# EAGLE library part ATSAMC21J18A-AUT (library graftel-internal-ic)
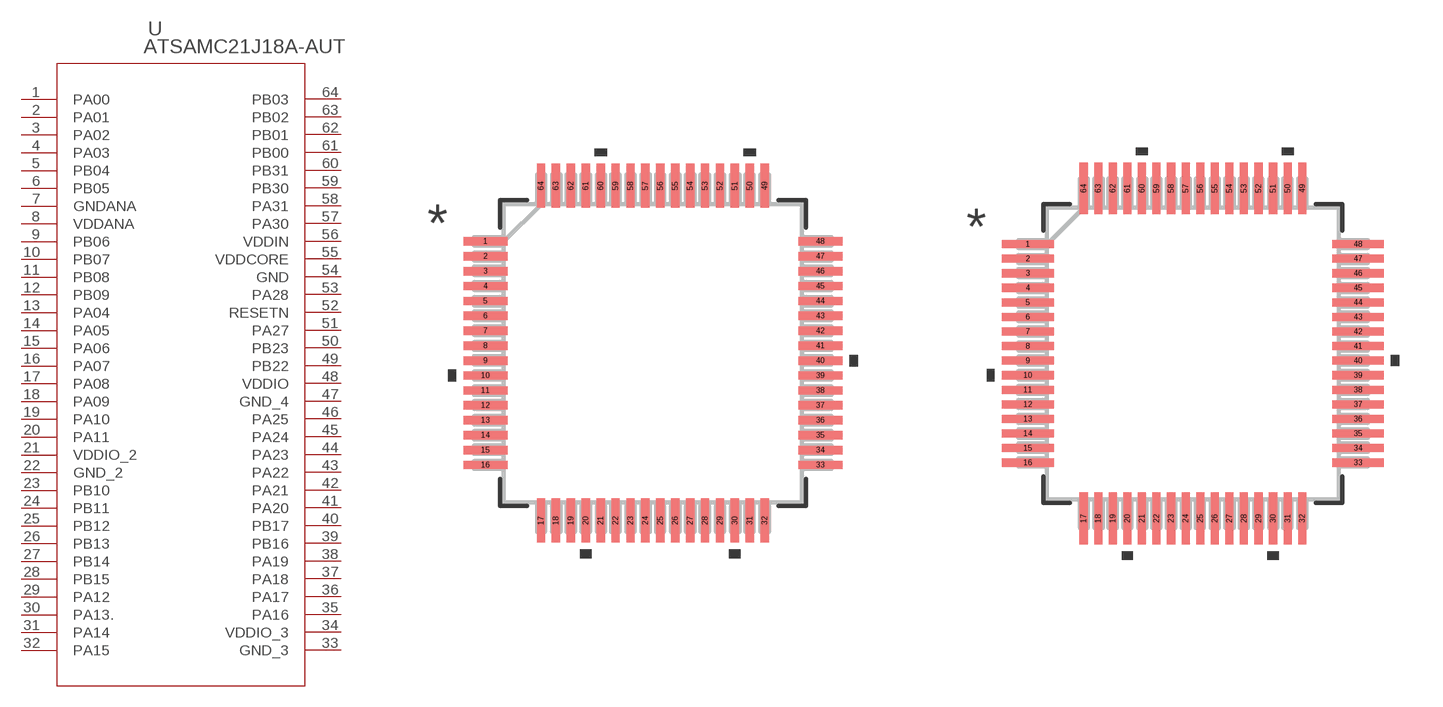
[diagram p81: symbol with the pads of TQFP64_10X10MC_MCH; footprints TQFP64_10X10MC_MCH, TQFP64_10X10MC_MCH-M]

Designator prefix U

## ATSAMC21J18A-AUT (BUILT_BY: EMA_Molly; COPYRIGHT: Copyright (C) 2018 Accelerated Designs. All rights reserved; MANUFACTURER_PART_NUMBER: ATSAMC21J18A-AUT; SOURCELIBRARY: Microchip_2019-08-23_25; VENDOR: Microchip)  [TQFP64_10X10MC_MCH]
1  PA00
2  PA01
3  PA02
4  PA03
5  PB04
6  PB05
7  GNDANA  pas
8  VDDANA  pwr
9  PB06
10  PB07
11  PB08
12  PB09
13  PA04
14  PA05
15  PA06
16  PA07
17  PA08
18  PA09
19  PA10
20  PA11
21  VDDIO_2  pwr
22  GND_2  pas
23  PB10
24  PB11
25  PB12
26  PB13
27  PB14
28  PB15
29  PA12
30  PA13.
31  PA14
32  PA15
33  GND_3  pas
34  VDDIO_3  pwr
35  PA16
36  PA17
37  PA18
38  PA19
39  PB16
40  PB17
41  PA20
42  PA21
43  PA22
44  PA23
45  PA24
46  PA25
47  GND_4  pas
48  VDDIO  pwr
49  PB22
50  PB23
51  PA27
52  RESETN  pas
53  PA28
54  GND  pas
55  VDDCORE  pwr
56  VDDIN  pwr
57  PA30
58  PA31
59  PB30
60  PB31
61  PB00
62  PB01
63  PB02
64  PB03

## ATSAMC21J18A-AUTTQFP64_10X10MC_MCH-M (BUILT_BY: EMA_Molly; COPYRIGHT: Copyright (C) 2018 Accelerated Designs. All rights reserved; MANUFACTURER_PART_NUMBER: ATSAMC21J18A-AUT; SOURCELIBRARY: Microchip_2019-08-23_25; VENDOR: Microchip)  [TQFP64_10X10MC_MCH-M]
Pads as for TQFP64_10X10MC_MCH

## ATSAMC21J18A-AUTTQFP64_10X10MC_MCH-L (BUILT_BY: EMA_Molly; COPYRIGHT: Copyright (C) 2018 Accelerated Designs. All rights reserved; MANUFACTURER_PART_NUMBER: ATSAMC21J18A-AUT; SOURCELIBRARY: Microchip_2019-08-23_25; VENDOR: Microchip)  [TQFP64_10X10MC_MCH-L]
Pads as for TQFP64_10X10MC_MCH

## Footprint TQFP64_10X10MC_MCH (pad centres in mm)
smd 1.473 x 0.279: 1 -5.613,3.75; 2 -5.613,3.25; 3 -5.613,2.75; 4 -5.613,2.25; 5 -5.613,1.75; 6 -5.613,1.25; 7 -5.613,0.75; 8 -5.613,0.25; 9 -5.613,-0.25; 10 -5.613,-0.75; 11 -5.613,-1.25; 12 -5.613,-1.75; 13 -5.613,-2.25; 14 -5.613,-2.75; 15 -5.613,-3.25; 16 -5.613,-3.75; 33 5.613,-3.75; 34 5.613,-3.25; 35 5.613,-2.75; 36 5.613,-2.25; 37 5.613,-1.75; 38 5.613,-1.25; 39 5.613,-0.75; 40 5.613,-0.25; 41 5.613,0.25; 42 5.613,0.75; 43 5.613,1.25; 44 5.613,1.75; 45 5.613,2.25; 46 5.613,2.75; 47 5.613,3.25; 48 5.613,3.75
smd 0.279 x 1.473: 17 -3.75,-5.613; 18 -3.25,-5.613; 19 -2.75,-5.613; 20 -2.25,-5.613; 21 -1.75,-5.613; 22 -1.25,-5.613; 23 -0.75,-5.613; 24 -0.25,-5.613; 25 0.25,-5.613; 26 0.75,-5.613; 27 1.25,-5.613; 28 1.75,-5.613; 29 2.25,-5.613; 30 2.75,-5.613; 31 3.25,-5.613; 32 3.75,-5.613; 49 3.75,5.613; 50 3.25,5.613; 51 2.75,5.613; 52 2.25,5.613; 53 1.75,5.613; 54 1.25,5.613; 55 0.75,5.613; 56 0.25,5.613; 57 -0.25,5.613; 58 -0.75,5.613; 59 -1.25,5.613; 60 -1.75,5.613; 61 -2.25,5.613; 62 -2.75,5.613; 63 -3.25,5.613; 64 -3.75,5.613

## Footprint TQFP64_10X10MC_MCH-M (pad centres in mm)
smd 1.778 x 0.279: 1 -5.664,3.75; 2 -5.664,3.25; 3 -5.664,2.75; 4 -5.664,2.25; 5 -5.664,1.75; 6 -5.664,1.25; 7 -5.664,0.75; 8 -5.664,0.25; 9 -5.664,-0.25; 10 -5.664,-0.75; 11 -5.664,-1.25; 12 -5.664,-1.75; 13 -5.664,-2.25; 14 -5.664,-2.75; 15 -5.664,-3.25; 16 -5.664,-3.75; 33 5.664,-3.75; 34 5.664,-3.25; 35 5.664,-2.75; 36 5.664,-2.25; 37 5.664,-1.75; 38 5.664,-1.25; 39 5.664,-0.75; 40 5.664,-0.25; 41 5.664,0.25; 42 5.664,0.75; 43 5.664,1.25; 44 5.664,1.75; 45 5.664,2.25; 46 5.664,2.75; 47 5.664,3.25; 48 5.664,3.75
smd 0.279 x 1.778: 17 -3.75,-5.664; 18 -3.25,-5.664; 19 -2.75,-5.664; 20 -2.25,-5.664; 21 -1.75,-5.664; 22 -1.25,-5.664; 23 -0.75,-5.664; 24 -0.25,-5.664; 25 0.25,-5.664; 26 0.75,-5.664; 27 1.25,-5.664; 28 1.75,-5.664; 29 2.25,-5.664; 30 2.75,-5.664; 31 3.25,-5.664; 32 3.75,-5.664; 49 3.75,5.664; 50 3.25,5.664; 51 2.75,5.664; 52 2.25,5.664; 53 1.75,5.664; 54 1.25,5.664; 55 0.75,5.664; 56 0.25,5.664; 57 -0.25,5.664; 58 -0.75,5.664; 59 -1.25,5.664; 60 -1.75,5.664; 61 -2.25,5.664; 62 -2.75,5.664; 63 -3.25,5.664; 64 -3.75,5.664

## Footprint TQFP64_10X10MC_MCH-L (pad centres in mm)
smd 1.168 x 0.229: 1 -5.563,3.75; 2 -5.563,3.25; 3 -5.563,2.75; 4 -5.563,2.25; 5 -5.563,1.75; 6 -5.563,1.25; 7 -5.563,0.75; 8 -5.563,0.25; 9 -5.563,-0.25; 10 -5.563,-0.75; 11 -5.563,-1.25; 12 -5.563,-1.75; 13 -5.563,-2.25; 14 -5.563,-2.75; 15 -5.563,-3.25; 16 -5.563,-3.75; 33 5.563,-3.75; 34 5.563,-3.25; 35 5.563,-2.75; 36 5.563,-2.25; 37 5.563,-1.75; 38 5.563,-1.25; 39 5.563,-0.75; 40 5.563,-0.25; 41 5.563,0.25; 42 5.563,0.75; 43 5.563,1.25; 44 5.563,1.75; 45 5.563,2.25; 46 5.563,2.75; 47 5.563,3.25; 48 5.563,3.75
smd 0.229 x 1.168: 17 -3.75,-5.563; 18 -3.25,-5.563; 19 -2.75,-5.563; 20 -2.25,-5.563; 21 -1.75,-5.563; 22 -1.25,-5.563; 23 -0.75,-5.563; 24 -0.25,-5.563; 25 0.25,-5.563; 26 0.75,-5.563; 27 1.25,-5.563; 28 1.75,-5.563; 29 2.25,-5.563; 30 2.75,-5.563; 31 3.25,-5.563; 32 3.75,-5.563; 49 3.75,5.563; 50 3.25,5.563; 51 2.75,5.563; 52 2.25,5.563; 53 1.75,5.563; 54 1.25,5.563; 55 0.75,5.563; 56 0.25,5.563; 57 -0.25,5.563; 58 -0.75,5.563; 59 -1.25,5.563; 60 -1.75,5.563; 61 -2.25,5.563; 62 -2.75,5.563; 63 -3.25,5.563; 64 -3.75,5.563